# EAGLE library part TE-B2B-10POS-VERT-SMT (library TE)
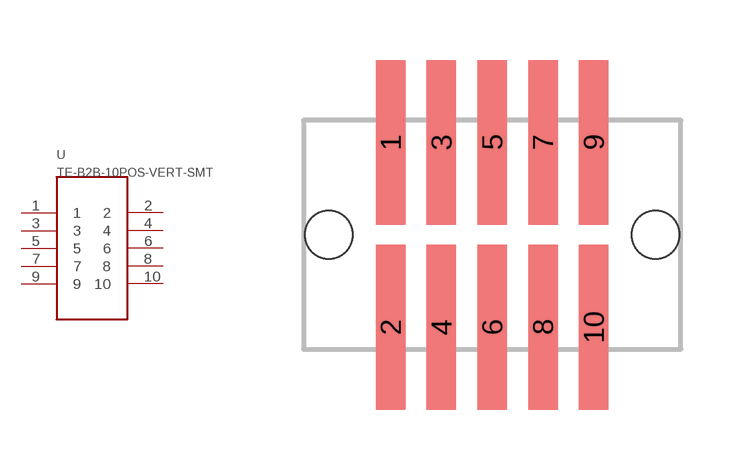
[diagram p0: symbol with the pads of B2B_HEADER-VERT-SMD-10POS_0.05"; footprint B2B_HEADER-VERT-SMD-10POS_0.05"]

Designator prefix -

## TE-B2B-10POS-VERT-SMT  [B2B_HEADER-VERT-SMD-10POS_0.05"]
1  1
2  2
3  3
4  4
5  5
6  6
7  7
8  8
9  9
10  10

## Footprint B2B_HEADER-VERT-SMD-10POS_0.05" (pad centres in mm)
smd 0.737 x 4.115: 1 -2.54,2.311; 2 -2.54,-2.311; 3 -1.27,2.311; 4 -1.27,-2.311; 5 0,2.311; 6 0,-2.311; 7 1.27,2.311; 8 1.27,-2.311; 9 2.54,2.311; 10 2.54,-2.311
hole 1.194 at 4.089,0
hole 1.194 at -4.089,0